# Altium footprint library SQFP-64_10x10.PcbLib: 1 footprints
Each footprint in its own frame and in the unit in brackets; x right, y up, seen from the top. Pads: shape width x height; smd on the part's side, far side on the other; paste and mask are expansions set on the pad; w line width, h text height; cw(c..) or ccw(c..) is an arc to the next point about the centre after c.
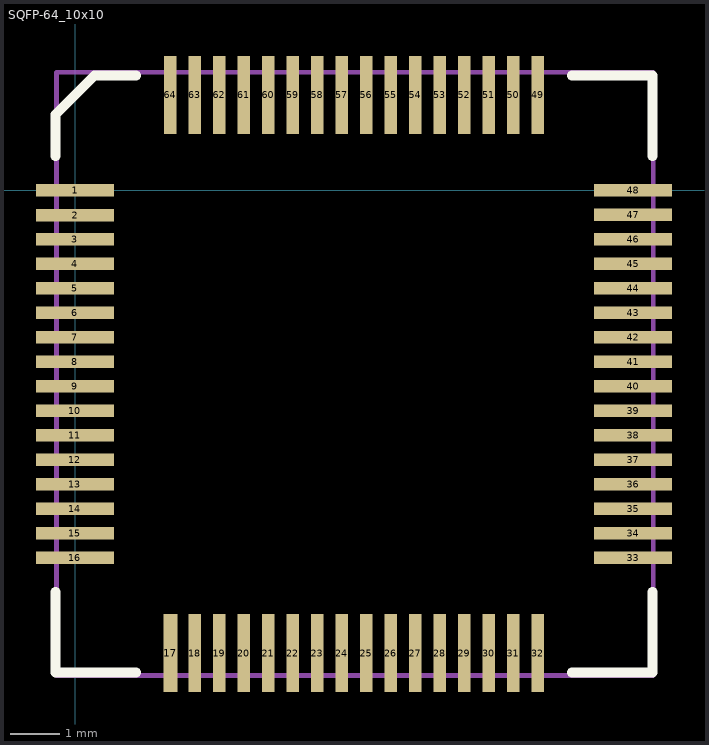
[diagram p0: the footprint, top view; thin cyan lines are the x and y axes]

## SQFP-64_10x10 [mil]
pads (64):
  rect 63x10 smd: 1(0,0) 2(0,-20) 3(-0.08,-39.39) 4(-0.08,-59.08) 5(-0.08,-78.76) 6(-0.08,-98.45) 7(-0.08,-118.13) 8(-0.08,-137.82) 9(-0.08,-157.5) 10(-0.08,-177.19) 11(-0.08,-196.87) 12(-0.08,-216.56) 13(-0.08,-236.24) 14(-0.08,-255.93) 15(-0.08,-275.61) 16(-0.08,-295.3) 33(448.74,-295.3) 34(448.74,-275.61) 35(448.74,-255.93) 36(448.74,-236.24) 37(448.74,-216.56) 38(448.74,-196.87) 39(448.74,-177.19) 40(448.74,-157.5) 41(448.74,-137.82) 42(448.74,-118.13) 43(448.74,-98.45) 44(448.74,-78.76) 45(448.74,-59.08) 46(448.74,-39.39) 47(448.74,-19.71) 48(448.74,-0.02)
  rect 11.02x62.99 smd: 17(76.69,-372.07)
  rect 10x63 smd: 18(96.38,-372.07) 19(116.06,-372.07) 20(135.75,-372.07) 21(155.43,-372.07) 22(175.12,-372.07) 23(194.8,-372.07) 24(214.49,-372.07) 25(234.17,-372.07) 26(253.86,-372.07) 27(273.54,-372.07) 28(293.23,-372.07) 29(312.91,-372.07) 30(332.6,-372.07) 31(352.28,-372.07) 32(371.97,-372.07) 49(371.97,76.75) 50(352.28,76.75) 51(332.6,76.75) 52(312.91,76.75) 53(293.23,76.75) 54(273.54,76.75) 55(253.86,76.75) 56(234.17,76.75) 57(214.49,76.75) 58(194.8,76.75) 59(175.12,76.75) 60(155.43,76.75) 61(135.75,76.75) 62(116.06,76.75) 63(96.38,76.75) 64(76.69,76.75)
Top Overlay:
  lines w7.87: -15.83,-322.86 -15.83,-387.82 49.13,-387.82 ; -15.83,27.54 -15.83,61 15.67,92.5 49.13,92.5 ; 399.53,-387.82 464.49,-387.82 464.49,-322.86 ; 399.53,92.5 464.49,92.5 464.49,27.54
Mechanical 13:
  lines w3.94: -15,-390 -15,95 465,95 465,-390 -15,-390
3D body: height 59.06, standoff 0, extent -16.97,-391.97 466.97,96.97